# EAGLE library part PIC18F4XK22 (library GadgetFactory_v1)
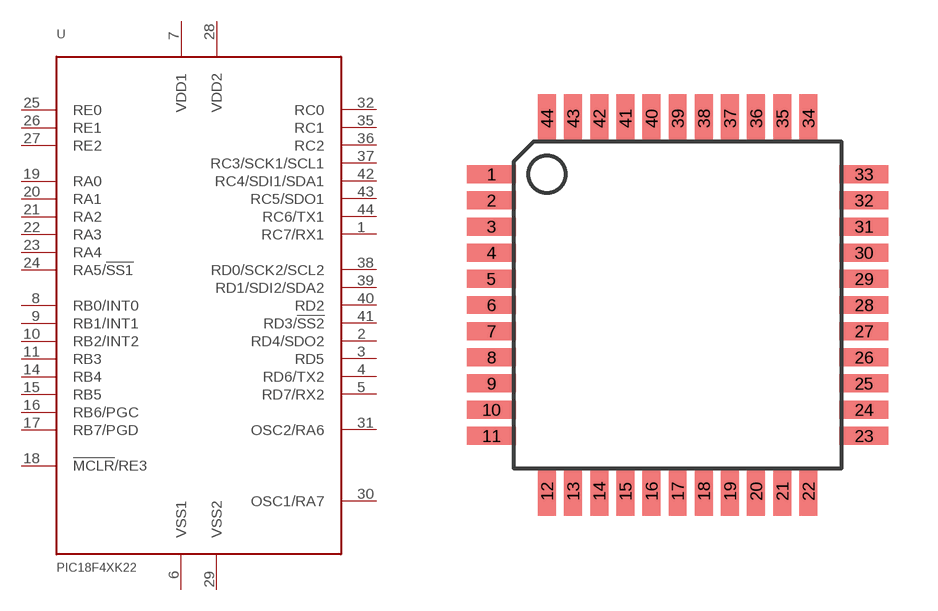
[diagram p20: symbol with the pads of TQFP44; footprint TQFP44]

Designator prefix U

## PIC18F4XK22/PT  [TQFP44]
1  RC7/RX1
2  RD4/SDO2
3  RD5
4  RD6/TX2
5  RD7/RX2
6  VSS1
7  VDD1
8  RB0/INT0
9  RB1/INT1
10  RB2/INT2
11  RB3
12  NC1  nc
13  NC2  nc
14  RB4
15  RB5
16  RB6/PGC
17  RB7/PGD
18  !MCLR!/RE3
19  RA0
20  RA1
21  RA2
22  RA3
23  RA4
24  RA5/!SS1
25  RE0
26  RE1
27  RE2
28  VDD2
29  VSS2
30  OSC1/RA7
31  OSC2/RA6
32  RC0
33  NC3  nc
34  NC4  nc
35  RC1
36  RC2
37  RC3/SCK1/SCL1
38  RD0/SCK2/SCL2
39  RD1/SDI2/SDA2
40  RD2
41  RD3/!SS2
42  RC4/SDI1/SDA1
43  RC5/SDO1
44  RC6/TX1

## Footprint TQFP44 (pad centres in mm)
smd 1.5 x 0.55: 1 -5.7,4; 2 -5.7,3.2; 3 -5.7,2.4; 4 -5.7,1.6; 5 -5.7,0.8; 6 -5.7,0; 7 -5.7,-0.8; 8 -5.7,-1.6; 9 -5.7,-2.4; 10 -5.7,-3.2; 11 -5.7,-4; 23 5.7,-4; 24 5.7,-3.2; 25 5.7,-2.4; 26 5.7,-1.6; 27 5.7,-0.8; 28 5.7,0; 29 5.7,0.8; 30 5.7,1.6; 31 5.7,2.4; 32 5.7,3.2; 33 5.7,4
smd 0.55 x 1.5: 12 -4,-5.7; 13 -3.2,-5.7; 14 -2.4,-5.7; 15 -1.6,-5.7; 16 -0.8,-5.7; 17 0,-5.7; 18 0.8,-5.7; 19 1.6,-5.7; 20 2.4,-5.7; 21 3.2,-5.7; 22 4,-5.7; 34 4,5.7; 35 3.2,5.7; 36 2.4,5.7; 37 1.6,5.7; 38 0.8,5.7; 39 0,5.7; 40 -0.8,5.7; 41 -1.6,5.7; 42 -2.4,5.7; 43 -3.2,5.7; 44 -4,5.7